# EAGLE library part SI4831_FM_IC (library PR_Parts_Library)
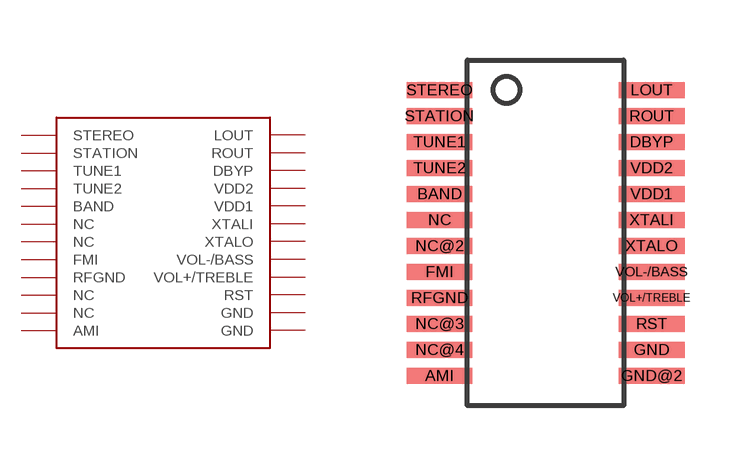
[diagram p0: symbol with the pads of SI4831_FM_IC; footprint SI4831_FM_IC]

Designator prefix -

## SI4831_FM_IC  [SI4831_FM_IC]
AMI  AMI
BAND  BAND
DBYP  DBYP
FMI  FMI
GND  GND
GND@2  GND
LOUT  LOUT
NC  NC
NC@2  NC
NC@3  NC
NC@4  NC
RFGND  RFGND
ROUT  ROUT
RST  RST
STATION  STATION
STEREO  STEREO
TUNE1  TUNE1
TUNE2  TUNE2
VDD1  VDD1
VDD2  VDD2
VOL+/TREBLE  VOL+/TREBLE
VOL-/BASS  VOL-/BASS
XTALI  XTALI
XTALO  XTALO

## Footprint SI4831_FM_IC (pad centres in mm)
smd 1.65 x 0.4: AMI -2.65,-3.575; BAND -2.65,0.975; DBYP 2.65,2.275; FMI -2.65,-0.975; GND 2.65,-2.925; GND@2 2.65,-3.575; LOUT 2.65,3.575; NC -2.65,0.325; NC@2 -2.65,-0.325; NC@3 -2.65,-2.275; NC@4 -2.65,-2.925; RFGND -2.65,-1.625; ROUT 2.65,2.925; RST 2.65,-2.275; STATION -2.65,2.925; STEREO -2.65,3.575; TUNE1 -2.65,2.275; TUNE2 -2.65,1.625; VDD1 2.65,0.975; VDD2 2.65,1.625; VOL+/TREBLE 2.65,-1.625; VOL-/BASS 2.65,-0.975; XTALI 2.65,0.325; XTALO 2.65,-0.325